# Altium schematic symbol library TPS2121RUXT.SchLib: 1 symbol
Pins are listed as number, name and electrical type; pins without a type are passive.

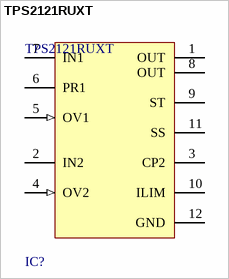
[diagram p0: symbol TPS2121RUXT]

## TPS2121RUXT
designator IC?
PWR MGMT BATTERY MGMT
footprint FP-RUX0012A-MFG
pins: 1 OUT (power), 2 IN2 (power), 3 CP2, 4 OV2 (in), 5 OV1 (in), 6 PR1, 7 IN1 (power), 8 OUT, 9 ST, 10 ILIM, 11 SS, 12 GND (power)